# EAGLE library part CC3000-MOD (library eightbitlabs)
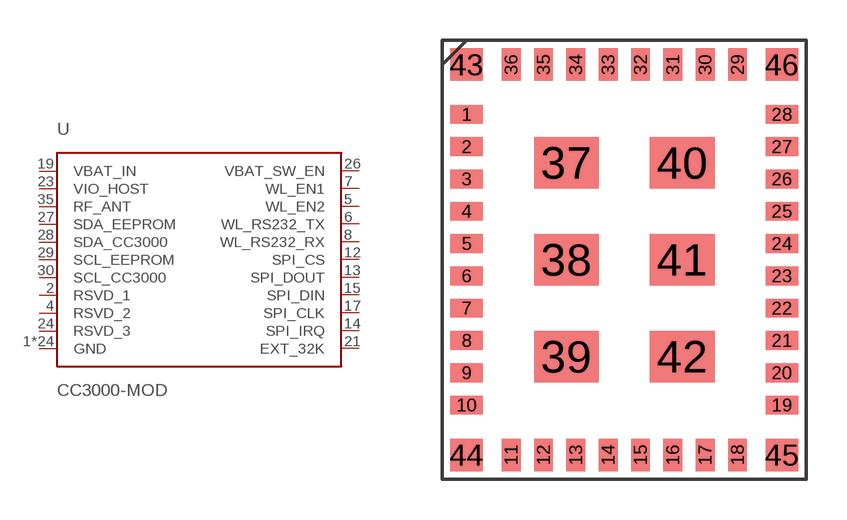
[diagram p1: symbol with the pads of CC3000-LGA; footprint CC3000-LGA]

Designator prefix U

## CC3000-MOD  [CC3000-LGA]
1  GND  pwr
2  RSVD_1
4  RSVD_2
5  WL_EN2  in
6  WL_RS232_TX  out
7  WL_EN1  in
8  WL_RS232_RX  in
9  GND  pwr
10  GND  pwr
11  GND  pwr
12  SPI_CS  in
13  SPI_DOUT  out
14  SPI_IRQ  in
15  SPI_DIN  in
16  GND  pwr
17  SPI_CLK  in
18  GND  pwr
19  VBAT_IN  pwr
20  GND  pwr
21  EXT_32K
22  GND  pwr
23  VIO_HOST  pwr
24  RSVD_3
25  GND  pwr
26  VBAT_SW_EN  in
27  SDA_EEPROM
28  SDA_CC3000
29  SCL_EEPROM
30  SCL_CC3000
31  GND  pwr
32  GND  pwr
33  GND  pwr
34  GND  pwr
35  RF_ANT
36  GND  pwr
37  GND  pwr
38  GND  pwr
39  GND  pwr
40  GND  pwr
41  GND  pwr
42  GND  pwr
43  GND  pwr
44  GND  pwr
45  GND  pwr
46  GND  pwr

## Footprint CC3000-LGA (pad centres in mm)
smd 1.2 x 0.7: 1 -5.85,5.4; 2 -5.85,4.2; 3 -5.85,3; 4 -5.85,1.8; 5 -5.85,0.6; 6 -5.85,-0.6; 7 -5.85,-1.8; 8 -5.85,-3; 9 -5.85,-4.2; 10 -5.85,-5.4; 19 5.85,-5.4; 20 5.85,-4.2; 21 5.85,-3; 22 5.85,-1.8; 23 5.85,-0.6; 24 5.85,0.6; 25 5.85,1.8; 26 5.85,3; 27 5.85,4.2; 28 5.85,5.4
smd 0.7 x 1.2: 11 -4.2,-7.25; 12 -3,-7.25; 13 -1.8,-7.25; 14 -0.6,-7.25; 15 0.6,-7.25; 16 1.8,-7.25; 17 3,-7.25; 18 4.2,-7.25; 29 4.2,7.25; 30 3,7.25; 31 1.8,7.25; 32 0.6,7.25; 33 -0.6,7.25; 34 -1.8,7.25; 35 -3,7.25; 36 -4.2,7.25
smd 2.4 x 1.9: 37 -2.15,3.6; 38 -2.15,0; 39 -2.15,-3.6; 40 2.15,3.6; 41 2.15,0; 42 2.15,-3.6
smd 1.2 x 1.2: 43 -5.85,7.25; 44 -5.85,-7.25; 45 5.85,-7.25; 46 5.85,7.25